# EAGLE library part PIC32MX320F*H (library Microchip)
PIC32 64-Pin General Purpose 32-Bit Flash Microcontroller
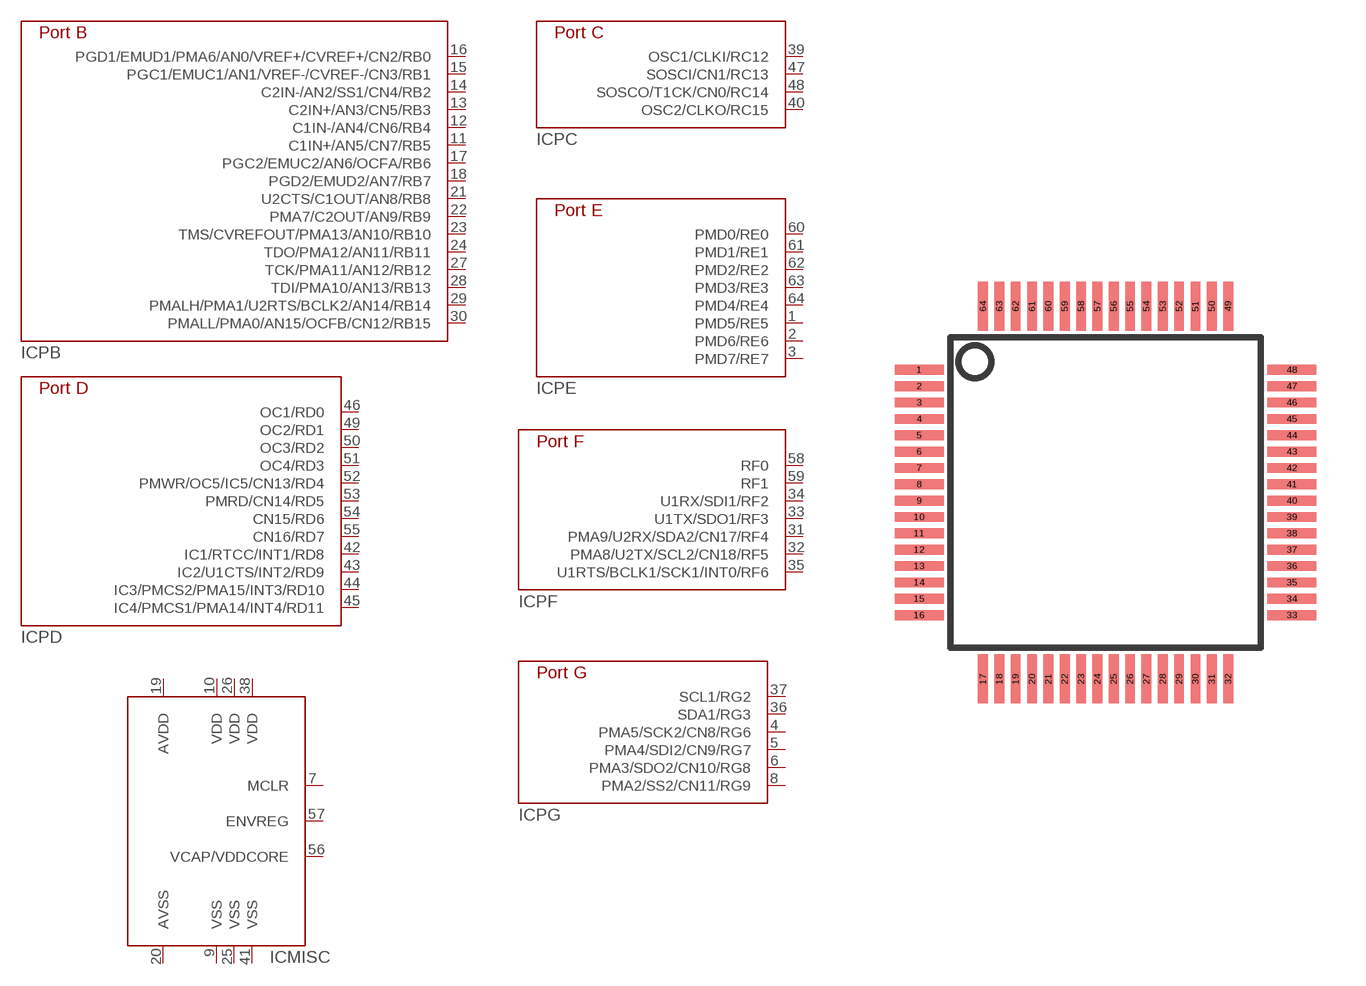
[diagram p14: symbol with the pads of TQ64-PT; footprint TQ64-PT]

Designator prefix IC; gates PB=PIC32MX3XXH-PB PC=PIC32MX3XXH-PC PD=PIC32MX3XXH-PD PE=PIC32MX3XXH-PE PF=PIC32MX3XXH-PF PG=PIC32MX3XXH-PG MISC=PIC32MX3XXH-MISC

## PIC32MX320F032H-PT, PIC32MX320F064H-PT, PIC32MX320F128H-PT  [TQ64-PT]
1  PE:PMD5/RE5
2  PE:PMD6/RE6
3  PE:PMD7/RE7
4  PG:PMA5/SCK2/CN8/RG6
5  PG:PMA4/SDI2/CN9/RG7
6  PG:PMA3/SDO2/CN10/RG8
7  MISC:MCLR
8  PG:PMA2/SS2/CN11/RG9
9  MISC:VSS
10  MISC:VDD
11  PB:C1IN+/AN5/CN7/RB5
12  PB:C1IN-/AN4/CN6/RB4
13  PB:C2IN+/AN3/CN5/RB3
14  PB:C2IN-/AN2/SS1/CN4/RB2
15  PB:PGC1/EMUC1/AN1/VREF-/CVREF-/CN3/RB1
16  PB:PGD1/EMUD1/PMA6/AN0/VREF+/CVREF+/CN2/RB0
17  PB:PGC2/EMUC2/AN6/OCFA/RB6
18  PB:PGD2/EMUD2/AN7/RB7
19  MISC:AVDD
20  MISC:AVSS
21  PB:U2CTS/C1OUT/AN8/RB8
22  PB:PMA7/C2OUT/AN9/RB9
23  PB:TMS/CVREFOUT/PMA13/AN10/RB10
24  PB:TDO/PMA12/AN11/RB11
25  MISC:VSS
26  MISC:VDD
27  PB:TCK/PMA11/AN12/RB12
28  PB:TDI/PMA10/AN13/RB13
29  PB:PMALH/PMA1/U2RTS/BCLK2/AN14/RB14
30  PB:PMALL/PMA0/AN15/OCFB/CN12/RB15
31  PF:PMA9/U2RX/SDA2/CN17/RF4
32  PF:PMA8/U2TX/SCL2/CN18/RF5
33  PF:U1TX/SDO1/RF3
34  PF:U1RX/SDI1/RF2
35  PF:U1RTS/BCLK1/SCK1/INT0/RF6
36  PG:SDA1/RG3
37  PG:SCL1/RG2
38  MISC:VDD
39  PC:OSC1/CLKI/RC12
40  PC:OSC2/CLKO/RC15
41  MISC:VSS
42  PD:IC1/RTCC/INT1/RD8
43  PD:IC2/U1CTS/INT2/RD9
44  PD:IC3/PMCS2/PMA15/INT3/RD10
45  PD:IC4/PMCS1/PMA14/INT4/RD11
46  PD:OC1/RD0
47  PC:SOSCI/CN1/RC13
48  PC:SOSCO/T1CK/CN0/RC14
49  PD:OC2/RD1
50  PD:OC3/RD2
51  PD:OC4/RD3
52  PD:PMWR/OC5/IC5/CN13/RD4
53  PD:PMRD/CN14/RD5
54  PD:CN15/RD6
55  PD:CN16/RD7
56  MISC:VCAP/VDDCORE
57  MISC:ENVREG
58  PF:RF0
59  PF:RF1
60  PE:PMD0/RE0
61  PE:PMD1/RE1
62  PE:PMD2/RE2
63  PE:PMD3/RE3
64  PE:PMD4/RE4

## Footprint TQ64-PT (pad centres in mm)
TQFP 64 pin, 0.5mm pitch, 16x16, Microchip PT package
smd 1.5 x 0.3: 1 -5.7,3.75; 2 -5.7,3.25; 3 -5.7,2.75; 4 -5.7,2.25; 5 -5.7,1.75; 6 -5.7,1.25; 7 -5.7,0.75; 8 -5.7,0.25; 9 -5.7,-0.25; 10 -5.7,-0.75; 11 -5.7,-1.25; 12 -5.7,-1.75; 13 -5.7,-2.25; 14 -5.7,-2.75; 15 -5.7,-3.25; 16 -5.7,-3.75; 33 5.7,-3.75; 34 5.7,-3.25; 35 5.7,-2.75; 36 5.7,-2.25; 37 5.7,-1.75; 38 5.7,-1.25; 39 5.7,-0.75; 40 5.7,-0.25; 41 5.7,0.25; 42 5.7,0.75; 43 5.7,1.25; 44 5.7,1.75; 45 5.7,2.25; 46 5.7,2.75; 47 5.7,3.25; 48 5.7,3.75
smd 0.3 x 1.5: 17 -3.75,-5.7; 18 -3.25,-5.7; 19 -2.75,-5.7; 20 -2.25,-5.7; 21 -1.75,-5.7; 22 -1.25,-5.7; 23 -0.75,-5.7; 24 -0.25,-5.7; 25 0.25,-5.7; 26 0.75,-5.7; 27 1.25,-5.7; 28 1.75,-5.7; 29 2.25,-5.7; 30 2.75,-5.7; 31 3.25,-5.7; 32 3.75,-5.7; 49 3.75,5.7; 50 3.25,5.7; 51 2.75,5.7; 52 2.25,5.7; 53 1.75,5.7; 54 1.25,5.7; 55 0.75,5.7; 56 0.25,5.7; 57 -0.25,5.7; 58 -0.75,5.7; 59 -1.25,5.7; 60 -1.75,5.7; 61 -2.25,5.7; 62 -2.75,5.7; 63 -3.25,5.7; 64 -3.75,5.7